# Altium footprint library Connectors.PcbLib: 76 footprints (part 1 of 5)
Each footprint in its own frame and in the unit in brackets; x right, y up, seen from the top. Pads: shape width x height; smd on the part's side, far side on the other; paste and mask are expansions set on the pad; w line width, h text height; cw(c..) or ccw(c..) is an arc to the next point about the centre after c.
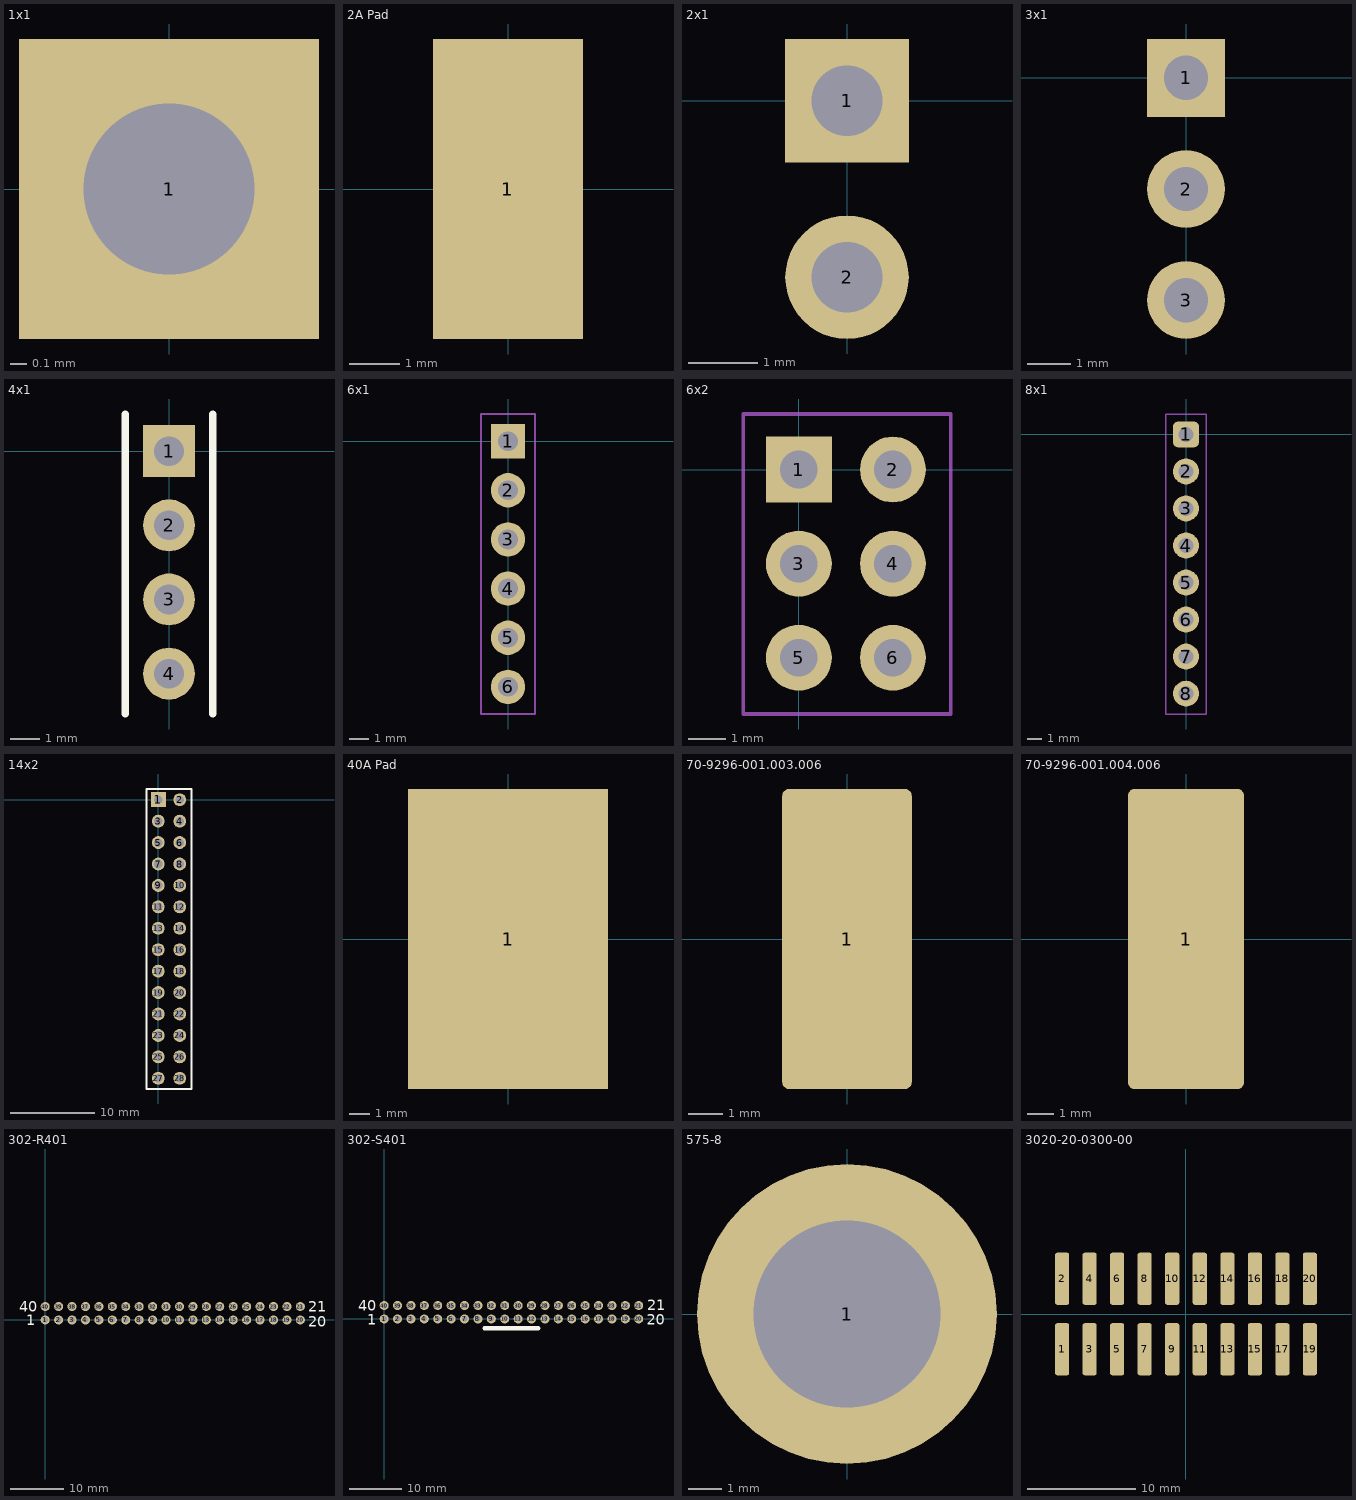
[diagram p0: the footprints below, top view; thin cyan lines are the x and y axes]

## 1x1 [mil]
pads (1):
  rect 70x70 hole 40 paste-3897.64: 1(0,0)
3D body: height 354.33, standoff -118.11, extent -12.8,-12.8 12.8,12.8
3D body: height 98.43, standoff 0, extent -50,-50 50,50

## 2A Pad [mm] "Spring Contact Land"
pads (1):
  rect 3x6 smd paste-99: 1(0,0)
Top Paste:
  rectangle: -1.446,1.1 1.448,2.875
  rectangle: -1.446,-0.875 1.448,0.875
  rectangle: -1.446,-2.875 1.448,-1.1

## 2x1 [mil]
pads (2):
  rect 70x70 hole 40 paste-3897.64: 1(0,0)
  round 70 hole 40 paste-3897.64: 2(0,-100)
3D body "m20-9990245_asm.stp": height 338.58, standoff -121.26, extent -50,-150 50,50

## 3x1 [mil]
pads (3):
  rect 70x70 hole 40 paste-3897.64: 1(0,0)
  round 70 hole 40 paste-3897.64: 2(0,-100) 3(0,-200)

## 4x1 [mil]
pads (4):
  rect 70x70 hole 40: 1(0,0)
  round 70 hole 40: 2(0,-100) 3(0,-200) 4(0,-300)
Top Overlay:
  lines w10: -59.06,-354.33 -59.06,50 ; 59.06,-354.33 59.06,50

## 6x1 [mil]
pads (6):
  rect 70x70 hole 40 paste-3897.64: 1(0,0)
  round 70 hole 40 paste-3897.64: 2(0,-100) 3(0,-200) 4(0,-300) 5(0,-400) 6(0,-500)
Assembly:
  lines w3.94: -55.12,-555.12 55.12,-555.12 55.12,-129.92 55.12,55.12 -55.12,55.12 -55.12,-555.12
  text ".Designator" at 23.62,-503.94 h118.11
3D body "m20-97306xx_asm.stp": height 374.02, standoff -122.05, extent -50,-550 50,50

## 6x2 [mil]
pads (6):
  rect 70x70 hole 40 paste-3897.64: 1(0,0)
  round 70 hole 40 paste-3897.64: 2(100,0) 3(0,-100) 4(100,-100) 5(0,-200) 6(100,-200)
Assembly:
  lines w3.94: -59.06,-259.84 -59.06,59.06 161.42,59.06 161.42,-236.22 161.42,-259.84 -59.06,-259.84
  text ".Designator" at 62.99,-224.41 h59.06
3D body "PR(E,P)C003DAAN-RC.stp": height 329.79, standoff -117.83, extent -50,-250 150,50

## 8x1 [mil]
pads (8):
  rrect40% 70x70 hole 40 paste-3897.64: 1(0,0)
  round 70 hole 40 paste-3897.64: 2(0,-100) 3(0,-200) 4(0,-300) 5(0,-400) 6(0,-500) 7(0,-600) 8(0,-700)
Assembly:
  lines w3.94: -55.12,-755 55.12,-755 55.12,-129.92 55.12,55.12 -55.12,55.12 -55.12,-755
  text ".Designator" at 23.62,-748.94 h118.11
3D body "m20-97306xx_asm.stp": height 374.02, standoff -122.05, extent -50,-550 50,50
3D body "m20-9990245_asm.stp": height 338.58, standoff -121.26, extent -50,-750 50,-550

## 14x2 [mil]
pads (28):
  rect 70x70 hole 40: 1(0,0)
  round 60 hole 40: 2(100,0) 3(0,-100) 4(100,-100) 5(0,-200) 6(100,-200) 7(0,-300) 8(100,-300) 9(0,-400) 10(100,-400) 11(0,-500) 12(100,-500) 13(0,-600) 14(100,-600) 15(0,-700) 16(100,-700) 17(0,-800) 18(100,-800) 19(0,-900) 20(100,-900) 21(0,-1000) 22(100,-1000) 23(0,-1100) 24(100,-1100) 25(0,-1200) 26(100,-1200) 27(0,-1300) 28(100,-1300)
Top Overlay:
  lines w10: 25,50 155,50 155,-1350 -55,-1350 -55,50 75,50

## 40A Pad [mm] "Spring Contact Land"
pads (1):
  rect 10x15 smd paste-99: 1(0,0)
Top Paste:
  region: 4.5,7.2 0.4,7.2 0.4,2.8 4.5,2.8
  rectangle: -4.5,2.8 -0.4,7.2
  rectangle: -4.5,-2.2 -0.4,2.2
  region: 4.5,2.2 0.4,2.2 0.4,-2.2 4.5,-2.2
  region: 4.5,-2.8 0.4,-2.8 0.4,-7.2 4.5,-7.2
  rectangle: -4.5,-7.2 -0.4,-2.8

## 70-9296-001.003.006 [mm]
pads (1):
  rrect10% 3.8x8.8 smd paste-99: 1(0,0)
Top Paste:
  rectangle: -1.8,2.3 1.8,3.9
  rectangle: -1.8,0.3 1.8,1.9
  rectangle: -1.8,-1.8 1.8,-0.2
  rectangle: -1.8,-3.8 1.8,-2.2
3D body "AVX Interconnect-70-9296-001-003-006.STEP": height 3, standoff 0, extent -1.5,-4 1.5,4

## 70-9296-001.004.006 [mm]
pads (1):
  rrect10% 4.4x11.4 smd paste-99: 1(0,0)
Top Paste:
  rectangle: -2.1,-5.5 2.1,-3.9
  rectangle: -2.1,-3.6 2.1,-2
  rectangle: -2.1,-1.7 2.1,-0.1
  rectangle: -2.1,0.2 2.1,1.8
  rectangle: -2.1,2.1 2.1,3.7
  rectangle: -2.1,4 2.1,5.6
3D body "AVX Interconnect-70-9296-001-004-006.STEP": height 4, standoff 0, extent -2,-5.5 2,5.5

## 302-R401 [mm]
pads (40):
  round 1.7 hole 1.05 paste-99: 1(0,0) 2(2.54,0) 3(5.08,0) 4(7.62,0) 5(10.16,0) 6(12.7,0) 7(15.24,0) 8(17.78,0) 9(20.32,0) 10(22.86,0) 11(25.4,0) 12(27.94,0) 13(30.48,0) 14(33.02,0) 15(35.56,0) 16(38.1,0) 17(40.64,0) 18(43.18,0) 19(45.72,0) 20(48.26,0) 21(48.26,2.54) 22(45.72,2.54) 23(43.18,2.54) 24(40.64,2.54) 25(38.1,2.54) 26(35.56,2.54) 27(33.02,2.54) 28(30.48,2.54) 29(27.94,2.54) 30(25.4,2.54) 31(22.86,2.54) 32(20.32,2.54) 33(17.78,2.54) 34(15.24,2.54) 35(12.7,2.54) 36(10.16,2.54) 37(7.62,2.54) 38(5.08,2.54) 39(2.54,2.54) 40(0,2.54)
Top Overlay:
  text "40" at -4.953,1.524 h2
  text "21" at 49.784,1.524 h2
  text "20" at 49.784,-1.27 h2
  text "1" at -3.556,-1.016 h2
3D body "302-R401.stp": height 9.2, standoff -2.98, extent -5.084,-0.327 53.336,12.893

## 302-S401 [mm]
pads (40):
  round 1.7 hole 1.05 paste-99: 1(0,0) 2(2.54,0) 3(5.08,0) 4(7.62,0) 5(10.16,0) 6(12.7,0) 7(15.24,0) 8(17.78,0) 9(20.32,0) 10(22.86,0) 11(25.4,0) 12(27.94,0) 13(30.48,0) 14(33.02,0) 15(35.56,0) 16(38.1,0) 17(40.64,0) 18(43.18,0) 19(45.72,0) 20(48.26,0) 21(48.26,2.54) 22(45.72,2.54) 23(43.18,2.54) 24(40.64,2.54) 25(38.1,2.54) 26(35.56,2.54) 27(33.02,2.54) 28(30.48,2.54) 29(27.94,2.54) 30(25.4,2.54) 31(22.86,2.54) 32(20.32,2.54) 33(17.78,2.54) 34(15.24,2.54) 35(12.7,2.54) 36(10.16,2.54) 37(7.62,2.54) 38(5.08,2.54) 39(2.54,2.54) 40(0,2.54)
Top Overlay:
  lines w0.8: 19.05,-1.778 29.21,-1.778
  text "1" at -3.175,-1.143 h2
  text "20" at 49.784,-1.143 h2
  text "21" at 49.911,1.651 h2
  text "40" at -4.953,1.524 h2
3D body: height 9.1, standoff 0, extent -5.08,-3.175 53.34,5.715

## 575-8 [mm]
pads (1):
  round 9 hole 5.6 paste-99: 1(0,0)
Top Paste:
  region: 2.485,0.528 2.445,0.709 2.324,1.06 2.152,1.389 1.931,1.688 1.668,1.95 1.367,2.168 1.037,2.338 0.684,2.455 0.503,2.493 0.506,4.371 0.749,4.343 1.227,4.233 1.689,4.07 2.131,3.857 2.546,3.597 2.93,3.292 3.277,2.946 3.584,2.564 3.846,2.151 4.061,1.71 4.226,1.249 4.339,0.772 4.368,0.528
  region: -0.528,2.485 -0.709,2.445 -1.06,2.324 -1.389,2.152 -1.688,1.931 -1.95,1.668 -2.168,1.367 -2.338,1.037 -2.455,0.684 -2.493,0.503 -4.371,0.506 -4.343,0.749 -4.233,1.227 -4.07,1.689 -3.857,2.131 -3.597,2.546 -3.292,2.93 -2.946,3.277 -2.564,3.584 -2.151,3.846 -1.71,4.061 -1.249,4.226 -0.772,4.339 -0.528,4.368
  region: 0.528,-2.485 0.709,-2.445 1.06,-2.324 1.389,-2.152 1.688,-1.931 1.95,-1.668 2.168,-1.367 2.338,-1.037 2.455,-0.684 2.493,-0.503 4.371,-0.506 4.343,-0.749 4.233,-1.227 4.07,-1.689 3.857,-2.131 3.597,-2.546 3.292,-2.93 2.946,-3.277 2.564,-3.584 2.151,-3.846 1.71,-4.061 1.249,-4.226 0.772,-4.339 0.528,-4.368
  region: -2.485,-0.528 -2.445,-0.709 -2.324,-1.06 -2.152,-1.389 -1.931,-1.688 -1.668,-1.95 -1.367,-2.168 -1.037,-2.338 -0.684,-2.455 -0.503,-2.493 -0.506,-4.371 -0.749,-4.343 -1.227,-4.233 -1.689,-4.07 -2.131,-3.857 -2.546,-3.597 -2.93,-3.292 -3.277,-2.946 -3.584,-2.564 -3.846,-2.151 -4.061,-1.71 -4.226,-1.249 -4.339,-0.772 -4.368,-0.528
  lines w0.2: -2.563,0.506 -4.371,0.506 cw(c0,0) -0.528,4.368 -0.528,2.543 ; -2.551,0.503 cw(c0,0) -0.54,2.543 ; -2.543,-0.54 ccw(c0,0) -0.503,-2.551 ; -2.543,-0.528 -4.368,-0.528 ccw(c0,0) -0.506,-4.371 -0.506,-2.563 ; 0.503,2.551 cw(c0,0) 2.543,0.54 ; 0.506,2.563 0.506,4.371 cw(c0,0) 4.368,0.528 2.543,0.528 ; 0.528,-2.543 0.528,-4.368 ccw(c0,0) 4.371,-0.506 2.563,-0.506 ; 0.54,-2.543 ccw(c0,0) 2.551,-0.503
3D body "keystone-PN575-8.STEP": height 2.45, standoff -8.8, extent -3.95,-4 3.975,3.925

## 3020-20-0300-00 [mm] "20 Positions Header Connector 0.100\" (2.54mm) Surface Mount Gold"
pads (20):
  rrect30% 1.3x4.8 smd paste-0.04 mask+0.092: 1(-11.43,-3.25) 2(-11.43,3.25) 3(-8.89,-3.25) 4(-8.89,3.25) 5(-6.35,-3.25) 6(-6.35,3.25) 7(-3.81,-3.25) 8(-3.81,3.25) 9(-1.27,-3.25) 10(-1.27,3.25) 11(1.27,-3.25) 12(1.27,3.25) 13(3.81,-3.25) 14(3.81,3.25) 15(6.35,-3.25) 16(6.35,3.25) 17(8.89,-3.25) 18(8.89,3.25) 19(11.43,-3.25) 20(11.43,3.25)
3D body "3020-20-0300-xx.stp": height 9.8, standoff 0, extent -16.51,-5.1 16.51,5.1